# EAGLE library part TMUX1208PWR (library TMUX1208)
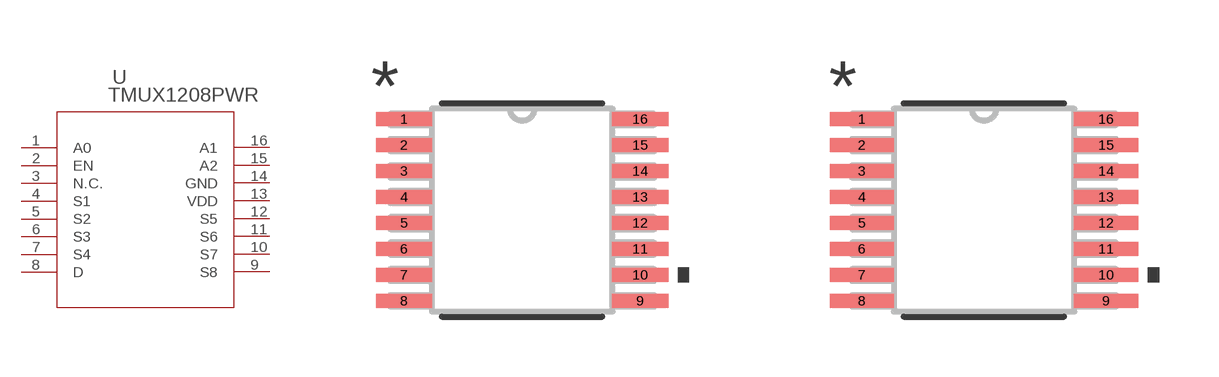
[diagram p0: symbol with the pads of PW_16_TEX; footprints PW_16_TEX, PW_16_TEX-M]

Designator prefix U

## TMUX1208PWR (COPYRIGHT: Copyright (C) 2022 Ultra Librarian. All rights reserved.; MANUFACTURER_PART_NUMBER: TMUX1208PWR; MFR_NAME: Texas Instruments)  [PW_16_TEX]
1  A0
2  EN  pas
3  N.C.  nc
4  S1
5  S2
6  S3
7  S4
8  D  pas
9  S8
10  S7
11  S6
12  S5
13  VDD  pwr
14  GND  pas
15  A2
16  A1

## TMUX1208PWRPW_16_TEX-M (COPYRIGHT: Copyright (C) 2022 Ultra Librarian. All rights reserved.; MANUFACTURER_PART_NUMBER: TMUX1208PWR; MFR_NAME: Texas Instruments)  [PW_16_TEX-M]
Pads as for PW_16_TEX

## TMUX1208PWRPW_16_TEX-L (COPYRIGHT: Copyright (C) 2022 Ultra Librarian. All rights reserved.; MANUFACTURER_PART_NUMBER: TMUX1208PWR; MFR_NAME: Texas Instruments)  [PW_16_TEX-L]
Pads as for PW_16_TEX

## Footprint PW_16_TEX (pad centres in mm)
smd 1.406 x 0.351: 1 -2.953,2.275; 2 -2.953,1.625; 3 -2.953,0.975; 4 -2.953,0.325; 5 -2.953,-0.325; 6 -2.953,-0.975; 7 -2.953,-1.625; 8 -2.953,-2.275; 9 2.953,-2.275; 10 2.953,-1.625; 11 2.953,-0.975; 12 2.953,-0.325; 13 2.953,0.325; 14 2.953,0.975; 15 2.953,1.625; 16 2.953,2.275

## Footprint PW_16_TEX-M (pad centres in mm)
smd 1.609 x 0.351: 1 -3.054,2.275; 2 -3.054,1.625; 3 -3.054,0.975; 4 -3.054,0.325; 5 -3.054,-0.325; 6 -3.054,-0.975; 7 -3.054,-1.625; 8 -3.054,-2.275; 9 3.054,-2.275; 10 3.054,-1.625; 11 3.054,-0.975; 12 3.054,-0.325; 13 3.054,0.325; 14 3.054,0.975; 15 3.054,1.625; 16 3.054,2.275

## Footprint PW_16_TEX-L (pad centres in mm)
smd 1.156 x 0.3: 1 -2.874,2.275; 2 -2.874,1.625; 3 -2.874,0.975; 4 -2.874,0.325; 5 -2.874,-0.325; 6 -2.874,-0.975; 7 -2.874,-1.625; 8 -2.874,-2.275; 9 2.874,-2.275; 10 2.874,-1.625; 11 2.874,-0.975; 12 2.874,-0.325; 13 2.874,0.325; 14 2.874,0.975; 15 2.874,1.625; 16 2.874,2.275